# EAGLE library part TB6612FNGMODULE (library Drivers)
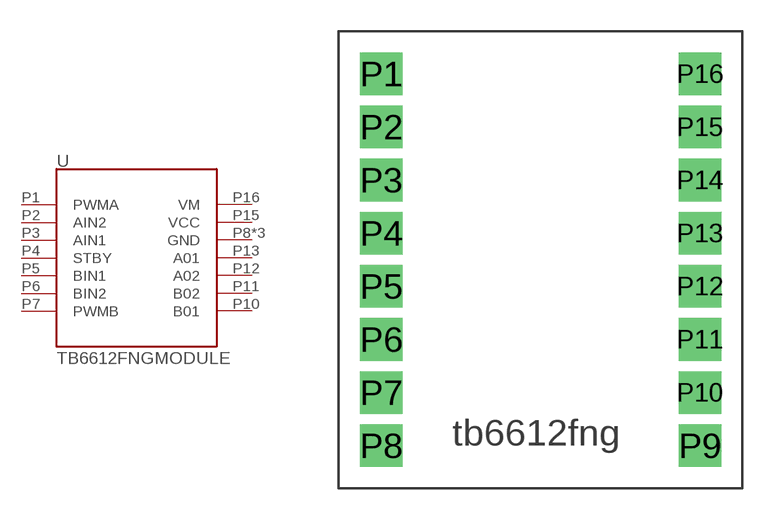
[diagram p0: symbol with the pads of TB6612FNG; footprint TB6612FNG]

Designator prefix -

## TB6612FNGMODULE  [TB6612FNG]
P1  PWMA
P2  AIN2
P3  AIN1
P4  STBY
P5  BIN1
P6  BIN2
P7  PWMB
P8  GND
P9  GND
P10  B01
P11  B02
P12  A02
P13  A01
P14  GND
P15  VCC
P16  VM

## Footprint TB6612FNG (pad centres in mm)
drill 0.6 pad 2.032 square: P1 -7.62,8.89; P2 -7.62,6.35; P3 -7.62,3.81; P4 -7.62,1.27; P5 -7.62,-1.27; P6 -7.62,-3.81; P7 -7.62,-6.35; P8 -7.62,-8.89; P9 7.62,-8.89; P10 7.62,-6.35; P11 7.62,-3.81; P12 7.62,-1.27; P13 7.62,1.27; P14 7.62,3.81; P15 7.62,6.35; P16 7.62,8.89